# Altium schematic symbol library microSIMsocket.SchLib: 1 symbol
Pins are listed as number, name and electrical type; pins without a type are passive.

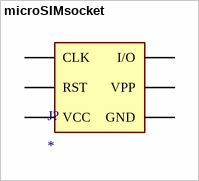
[diagram p0: symbol microSIMsocket]

## microSIMsocket
designator J?
Connector; Manufacturer_Name: Yamaichi; Manufacturer_Part_Number: FUS008U-5000-0; Datasheet Link: https://componentsearchengine.com//FUS008U-5000-0.pdf; Height: 2.7mm; Mouser2 Part Number: 945-FUS008U-5000-0; Mouser2 Price/Stock: https://www.mouser.com/Search/Refine.aspx?Keyword=945-FUS008U-5000-0
footprint microSIMsocket
pins: C1 VCC (power), C2 RST, C3 CLK, C5 GND, C6 VPP, C7 I/O, MP1 hidden to GND, MP2 hidden to GND, MP3 hidden to GND, MP4 hidden to GND